# Altium schematic symbol library tps7a3301qfn.SchLib: 2 symbols
Pins are listed as number, name and electrical type; pins without a type are passive.

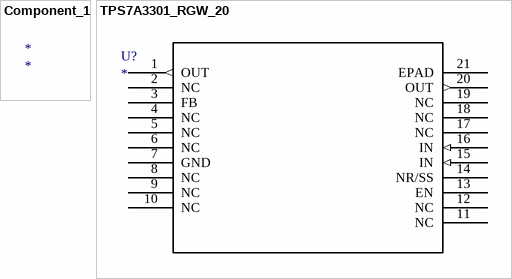
[diagram p0: symbols Component_1 to TPS7A3301_RGW_20]

## Component_1
designator *

## TPS7A3301_RGW_20
designator U?
Imported; Manufacturer_Part_Number: tps7a3301_rgw_20; GENERIC_PART_NUMBER: TPS7A3301; Vendor: Texas Instruments; PACKAGE_DESIGNATOR: RGW; PIN_COUNT: 20; FAMILY_NAME: SINGLE CHANNEL LDO; INDUSTRY_STD_PKG_TYPE: VQFN; Datasheet URL: http://www.ti.com/lit/gpn/TPS7A3301; Manufacturer: Texas Instruments; RefDes: RefDes; Type: DEV; Value: Value
footprint RGW20_3P15X3P15
pins: 1 OUT (out), 2 NC, 3 FB, 4 NC, 5 NC, 6 NC, 7 GND (power), 8 NC, 9 NC, 10 NC, 11 NC, 12 NC, 13 EN, 14 NR/SS, 15 IN (in), 16 IN (in), 17 NC, 18 NC, 19 NC, 20 OUT (out), 21 EPAD